# EAGLE library part LMV358ID (library ST Microelectronics)
Operational amplifiers
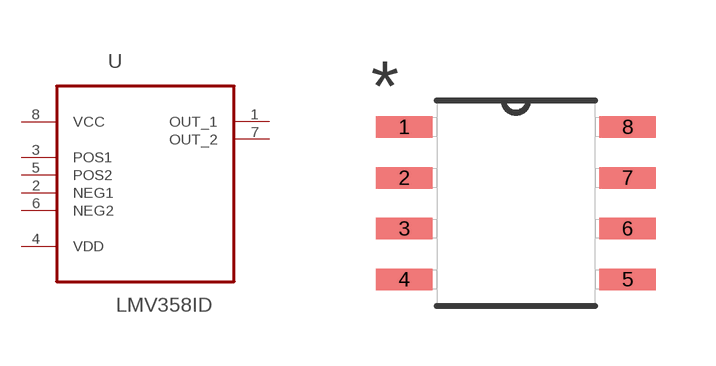
[diagram p124: symbol with the pads of SOIC127P600X175-8N; footprint SOIC127P600X175-8N]

Designator prefix U

## LMV358ID (MPN: LMV358ID; OC_FARNELL: 1374136; OC_NEWARK: 59M7498; PACKAGE: SOIC-8; SUPPLIER: STMICROELECTRONICS)  [SOIC127P600X175-8N]
1  OUT_1  out
2  NEG1  in
3  POS1  in
4  VDD  pwr
5  POS2  in
6  NEG2  in
7  OUT_2  out
8  VCC  pwr

## Footprint SOIC127P600X175-8N (pad centres in mm)
smd 1.422 x 0.533: 1 -2.794,1.905; 2 -2.794,0.635; 3 -2.794,-0.635; 4 -2.794,-1.905; 5 2.794,-1.905; 6 2.794,-0.635; 7 2.794,0.635; 8 2.794,1.905